# Altium integrated library Integrated_Library1.IntLib: 1 symbol
Pins are listed as number, name and electrical type; pins without a type are passive.

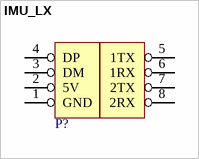
[diagram p0: symbol IMU_LX]

## IMU_LX
designator P?  (value not drawn)
footprint IMU_LX
pins: 1 GND, 2 5V, 3 DM, 4 DP, 5 1TX, 6 1RX, 7 2TX, 8 2RX